# Altium footprint library SMD_Cap_Pcb.PcbLib: 4 footprints
Each footprint in its own frame and in the unit in brackets; x right, y up, seen from the top. Pads: shape width x height; smd on the part's side, far side on the other; paste and mask are expansions set on the pad; w line width, h text height; cw(c..) or ccw(c..) is an arc to the next point about the centre after c.
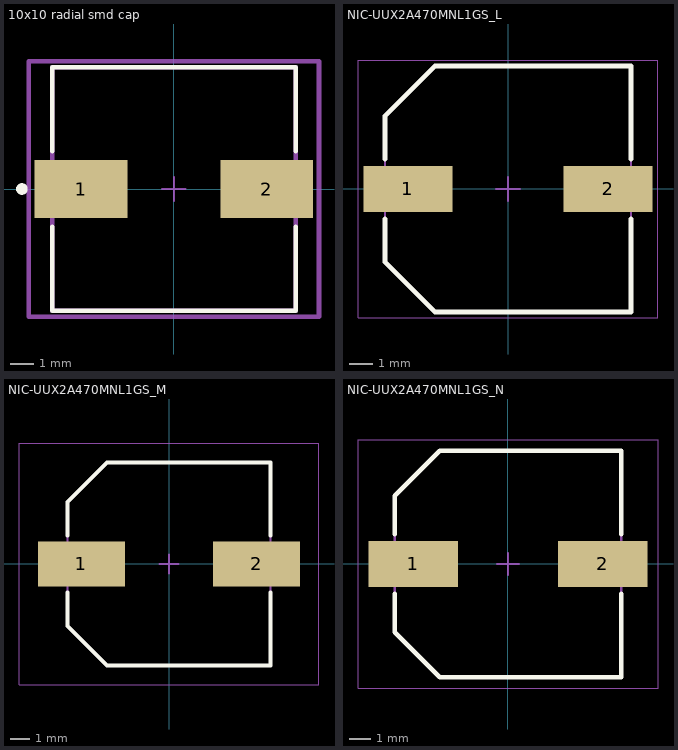
[diagram p0: the footprints below, top view; thin cyan lines are the x and y axes]

## 10x10 radial smd cap [mm]
pads (2):
  rect 4x2.5 smd paste+0 mask+0: 1(-4,0) 2(4,0)
Top Overlay:
  circle w0.25: c-6.55,0 r0.125
  lines w0.2: -5.25,-1.625 -5.25,-5.25 5.25,-5.25 5.25,-1.625 ; -5.25,1.625 -5.25,5.25 5.25,5.25 5.25,1.625
Mechanical 5:
  lines w0.2: -6.25,-5.5 -6.25,5.5 6.25,5.5 6.25,-5.5 -6.25,-5.5
  text ".Designator" at 0,0.188 h1
Mechanical 13:
  lines w0.2: -5.25,-5.25 -5.25,5.25 5.25,5.25 5.25,-5.25 -5.25,-5.25
Mechanical 15:
  lines w0.2: -6.25,-5.5 -6.25,5.5 6.25,5.5 6.25,-5.5 -6.25,-5.5
Mechanical 16:
  lines w0.1: -0.5,0 0.5,0 ; 0,-0.5 0,0.5
3D body "Cap_Nichicon_UWT1V331MNL1GS_eec.STEP": height 0.25, standoff 0, extent -6.25,-5.5 6.25,5.5

## NIC-UUX2A470MNL1GS_L [mm] "Aluminum Electrolytic Capacitor, Body 10.5x10.5mm, IPC High Density"
height 10.8
pads (2):
  rect 3.8x1.95 smd: 1(-4.275,0) 2(4.275,0)
Top Overlay:
  lines w0.2: -5.25,-1.275 -5.25,-3.113 -3.113,-5.25 5.25,-5.25 5.25,-1.275 ; -5.25,1.275 -5.25,3.112 -3.113,5.25 5.25,5.25 5.25,1.275
Mechanical 13:
  lines w0.1: -5.25,-3.113 -3.113,-5.25 5.25,-5.25 5.25,5.25 -3.113,5.25 -5.25,3.112 -5.25,-3.113
Mechanical 15:
  lines w0.05: -6.4,-5.5 -6.4,5.5 6.4,5.5 6.4,-5.5 -6.4,-5.5
  lines w0.1: -0.5,0 0.5,0 ; 0,-0.5 0,0.5
3D body "CAPAE113103X108L.step": height 10.8, standoff 0, extent -5.65,-5.25 5.65,5.25

## NIC-UUX2A470MNL1GS_M [mm] "Aluminum Electrolytic Capacitor, Body 10.5x10.5mm, IPC Low Density"
height 10.8
pads (2):
  rect 4.5x2.35 smd: 1(-4.525,0) 2(4.525,0)
Top Overlay:
  lines w0.2: -5.25,-1.475 -5.25,-3.213 -3.213,-5.25 5.25,-5.25 5.25,-1.475 ; -5.25,1.475 -5.25,3.212 -3.213,5.25 5.25,5.25 5.25,1.475
Mechanical 13:
  lines w0.1: -5.25,-3.213 -5.25,3.212 -3.213,5.25 5.25,5.25 5.25,-5.25 -3.213,-5.25 -5.25,-3.213
Mechanical 15:
  lines w0.05: -7.75,-6.25 7.75,-6.25 7.75,6.25 -7.75,6.25 -7.75,-6.25
  lines w0.1: -0.5,0 0.5,0 ; 0,-0.5 0,0.5
3D body "CAPAE113103X108M.step": height 10.8, standoff 0, extent -5.65,-5.25 5.65,5.25

## NIC-UUX2A470MNL1GS_N [mm] "Aluminum Electrolytic Capacitor, Body 10.5x10.5mm, IPC Medium Density"
height 10.8
pads (2):
  rect 4.15x2.15 smd: 1(-4.4,0) 2(4.4,0)
Top Overlay:
  lines w0.2: -5.25,-1.375 -5.25,-3.163 -3.162,-5.25 5.25,-5.25 5.25,-1.375 ; -5.25,1.375 -5.25,3.162 -3.162,5.25 5.25,5.25 5.25,1.375
Mechanical 13:
  lines w0.1: -5.25,-3.163 -3.162,-5.25 5.25,-5.25 5.25,5.25 -3.162,5.25 -5.25,3.162 -5.25,-3.163
Mechanical 15:
  lines w0.05: -6.95,-5.75 -6.95,5.75 6.95,5.75 6.95,-5.75 -6.95,-5.75
  lines w0.1: -0.5,0 0.5,0 ; 0,-0.5 0,0.5
3D body "CAPAE113103X108N.step": height 10.8, standoff 0, extent -5.65,-5.25 5.65,5.25